# EAGLE library part ADUM3201ARZ (library ADUM3201ARZ)
Analog Devices ADUM3201ARZ PCB SMT 2-channel Digital Isolator, 2500 Vrms, 8-Pin SOIC Source: Datasheet <http://uk.rs-online.com/web/p/products/9126394> Check availability <https://pricing.snapeda.com/parts/ADUM3201ARZ/Analog%20Devices/view-part?ref=eda>
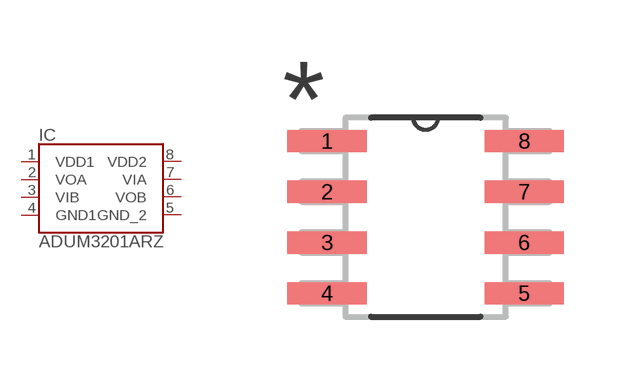
[diagram p0: symbol with the pads of SOIC127P600X175-8N; footprint SOIC127P600X175-8N]

Designator prefix IC

## ADUM3201ARZ (AVAILABILITY: In Stock; CHECK_PRICES: https://www.snapeda.com/parts/ADUM3201ARZ/Analog+Devices/view-part/?ref=eda; DESCRIPTION: Dual-Channel, Digital Isolator, Enhanced System-Level ESD Reliability; MF: Analog Devices; MP: ADUM3201ARZ; PACKAGE: SOIC-8 Analog Devices; PRICE: None; PURCHASE-URL: https://www.snapeda.com/api/url_track_click_mouser/?unipart_id=124430&manufacturer=Analog Devices&part_name=ADUM3201ARZ&search_term=None; SNAPEDA_LINK: https://www.snapeda.com/parts/ADUM3201ARZ/Analog+Devices/view-part/?ref=snap)  [SOIC127P600X175-8N]
1  VDD1
2  VOA
3  VIB
4  GND1
5  GND_2
6  VOB
7  VIA
8  VDD2

## Footprint SOIC127P600X175-8N (pad centres in mm)
smd 1.981 x 0.559: 1 -2.464,1.905; 2 -2.464,0.635; 3 -2.464,-0.635; 4 -2.464,-1.905; 5 2.464,-1.905; 6 2.464,-0.635; 7 2.464,0.635; 8 2.464,1.905